# Altium footprint library WDpcb1u201801241.PcbLib: 14 footprints
Each footprint in its own frame and in the unit in brackets; x right, y up, seen from the top. Pads: shape width x height; smd on the part's side, far side on the other; paste and mask are expansions set on the pad; w line width, h text height; cw(c..) or ccw(c..) is an arc to the next point about the centre after c.
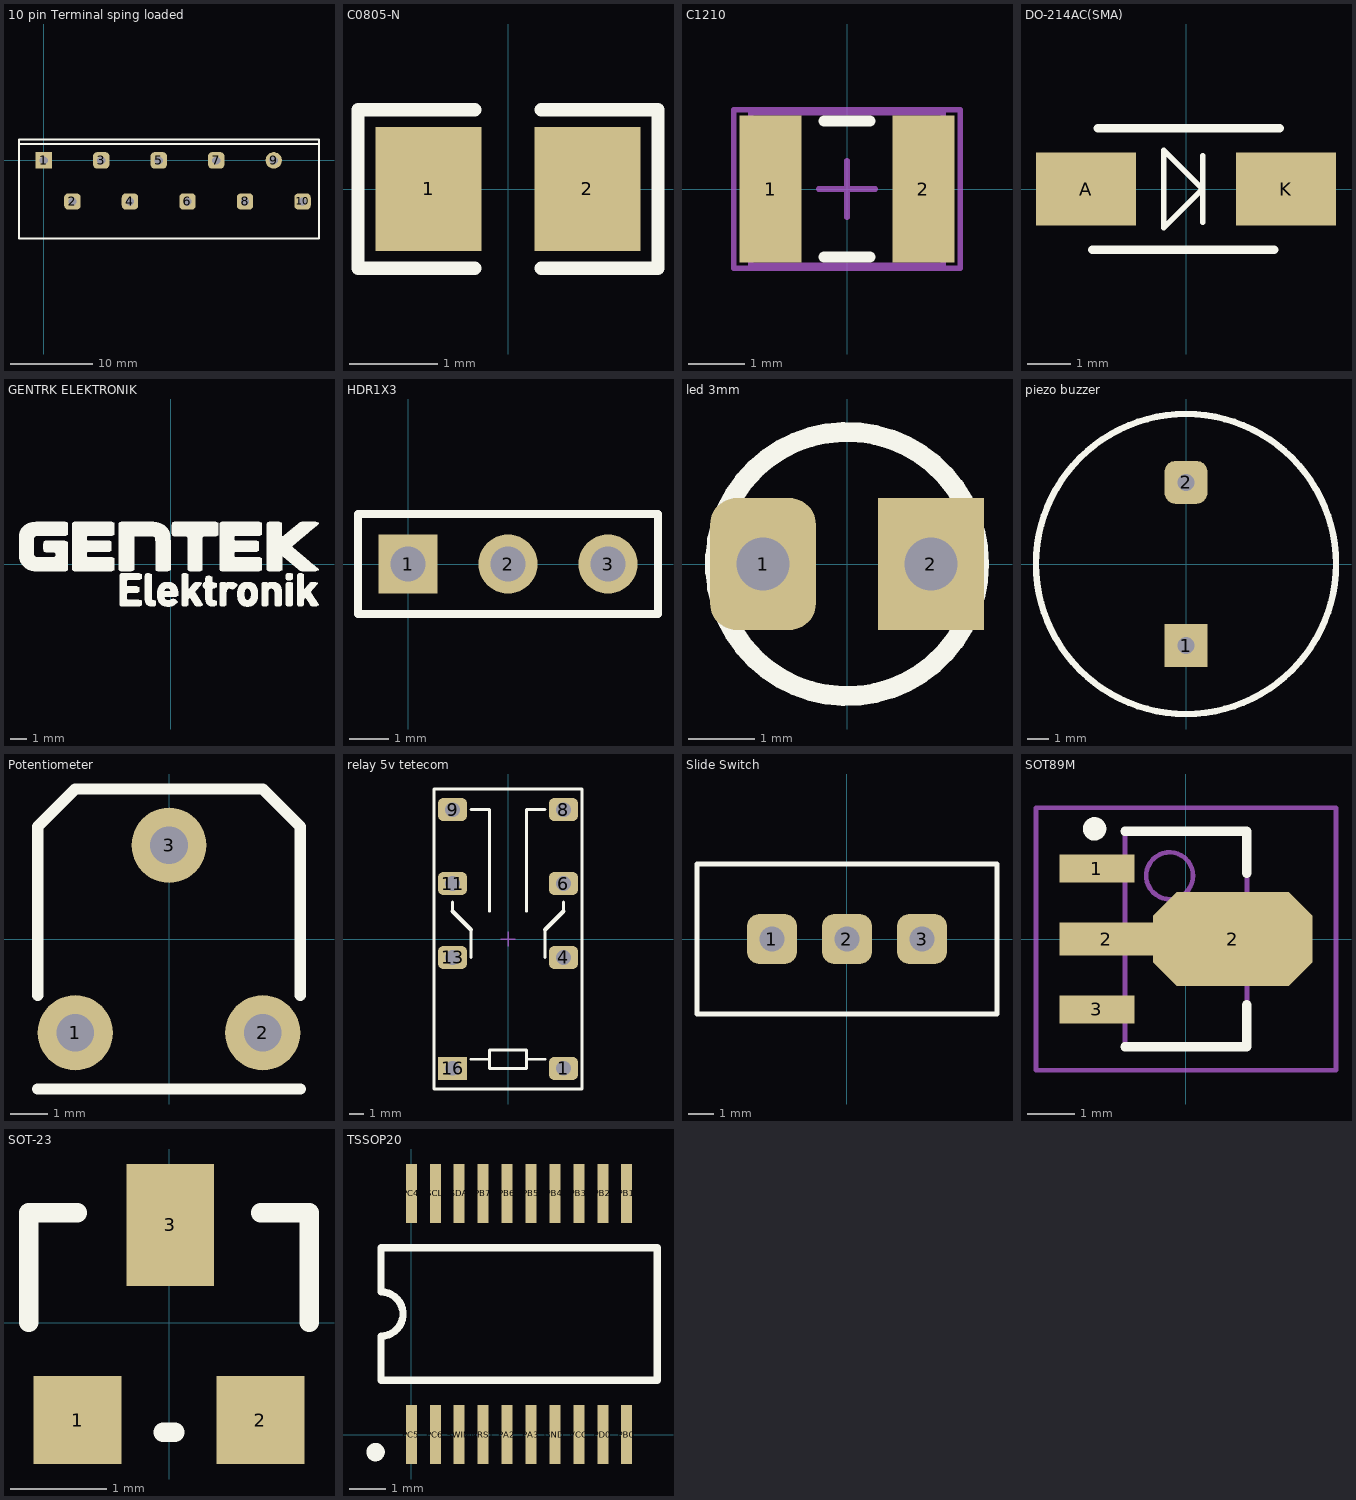
[diagram p0: the footprints below, top view; thin cyan lines are the x and y axes]

## 10 pin Terminal sping loaded [mm] "degson"
height 11.5
pads (10):
  rect 2x2 hole 1: 1(0,0)
  rrect50% 2x2 hole 1: 2(3.5,-5) 3(7,0) 4(10.5,-5) 5(14,0) 6(17.5,-5) 7(21,0) 8(24.5,-5) 10(31.5,-5)
  round 2 hole 1: 9(28,0)
Top Overlay:
  lines w0.2: -3,2 33.5,2 ; -3,-9.5 -3,2.54 33.02,2.54 33.5,2.54 33.5,-9.5 -3,-9.5

## C0805-N [mm] "Chip Resistor, Body 2.0x1.3mm, IPC Medium Density"
height 1.55
pads (2):
  rect 1.2x1.4 smd: 1(-0.9,0) 2(0.9,0)
Top Overlay:
  lines w0.152: -0.375,-0.9 -1.7,-0.9 -1.7,0.9 -0.375,0.9 ; 0.375,-0.9 1.7,-0.9 1.7,0.9 0.375,0.9
3D body: height 1.55, standoff 0, extent -1.075,-0.7 1.075,0.7

## C1210 [mm] "Chip Capacitor, Body 3.2x2.5mm, IPC High Density"
height 1.3
pads (2):
  rect 1.1x2.6 smd: 1(-1.35,0) 2(1.35,0)
Top Overlay:
  lines w0.2: -0.4,-1.2 0.4,-1.2 ; -0.4,1.2 0.4,1.2
Mechanical 13:
  lines w0.1: -1.7,-1.35 1.7,-1.35 1.7,1.35 -1.7,1.35 -1.7,-1.35
Mechanical 15:
  lines w0.1: -0.5,0 0.5,0 ; 0,-0.5 0,0.5 ; -2,-1.4 2,-1.4 2,1.4 -2,1.4 -2,-1.4
3D body: height 1.3, standoff 0, extent -1.7,-1.35 1.7,1.35

## DO-214AC(SMA) [mm]
pads (2):
  rect 2.3x1.68 smd: A(-2.3,0) K(2.3,0)
Top Overlay:
  lines w0.127: 0.381,-0.762 0.381,0.762 ; -0.508,-0.889 0.381,0 -0.508,0.889 -0.508,-0.889
  lines w0.2: -2.159,-1.397 2.032,-1.397 ; -2.032,1.397 2.159,1.397

## GENTRK ELEKTRONIK [mm]
height 3
Top Overlay:
  drawing of 4459 lines, arcs and shapes, not listed
3D body: height 3, standoff 0, extent -9.433,-2.587 9.201,2.645

## HDR1X3 [mm] "Connector; Header; 3 Position"
height 8
pads (3):
  rect 1.5x1.5 hole 0.9: 1(0,0)
  round 1.5 hole 0.9: 2(2.54,0) 3(5.08,0)
Top Overlay:
  lines w0.2: -1.27,-1.27 6.35,-1.27 6.35,1.27 -1.27,1.27 -1.27,-1.27

## led 3mm [mm]
height 5
pads (2):
  rrect50% 1.6x2 hole 0.8: 1(-1.27,0)
  rect 1.6x2 hole 0.8: 2(1.27,0)
Top Overlay:
  circle w0.3: c0,0 r2

## piezo buzzer [mm]
height 6.5
pads (2):
  rect 2x2 hole 0.8: 1(0,-3.81)
  rrect50% 2x2 hole 0.8: 2(0,3.81)
Top Overlay:
  circle w0.3: c0,0 r7

## Potentiometer [mm]
height 5
pads (3):
  round 2 hole 1: 1(-2.5,-2.5) 2(2.5,-2.5) 3(0,2.5)
Top Overlay:
  lines w0.3: -3.5,-4 3.5,-4 ; -3.5,-1.5 -3.5,2 -3.5,3 -2.5,4 2.5,4 3.5,3 3.5,2 3.5,-1.5

## relay 5v tetecom [mm]
height 12
pads (8):
  rrect50% 2x1.6 hole 1: 1(3.81,-8.89) 4(3.81,-1.27) 6(3.81,3.81) 8(3.81,8.89) 9(-3.81,8.89) 11(-3.81,3.81) 13(-3.81,-1.27)
  rect 2x1.6 hole 1: 16(-3.81,-8.89)
Top Overlay:
  lines w0.2: -3.81,1.905 -3.81,2.54 ; -2.54,-8.255 -1.27,-8.255 ; -2.54,-1.27 -2.54,0.635 ; -2.54,8.89 -1.27,8.89 -1.27,1.905 ; 1.27,-8.255 2.54,-8.255 ; 1.27,1.905 1.27,8.89 2.54,8.89 ; 2.54,-1.27 2.54,0.635 ; 3.81,1.905 3.81,2.54 ; -5.08,-10.3 -5.08,10.3 5.08,10.3 5.08,-10.3 -5.08,-10.3 ; -1.27,-8.89 -1.27,-7.62 1.27,-7.62 1.27,-8.89 -1.27,-8.89
  lines w0.3: -3.81,1.905 -2.54,0.635 ; 2.54,0.635 3.81,1.905
Mechanical 15:
  lines w0.1: -0.5,0 0.5,0 ; 0,-0.5 0,0.5

## Slide Switch [mm]
height 5
pads (3):
  rrect50% 2x2 hole 1: 1(-3,0) 2(0,0) 3(3,0)
Top Overlay:
  lines w0.2: -6,-3 -6,3 6,3 6,-3 -6,-3

## SOT89M [mm] "SOT89, 3-Leads, Body 4.5x2.4 mm, Pitch 1.5mm, Lead Span 4.1mm, IPC Low Density"
height 1.6
pads (4):
  rect 1.6x0.6 smd: 1(-1.9,1.5) 3(-1.9,-1.5)
  rect 2x0.7 smd: 2(-1.7,0)
  oct 3.4x2 smd: 2(1,0)
Top Overlay:
  circle w0.25: c-1.95,2.35 r0.125
  lines w0.2: -1.3,-2.3 1.3,-2.3 1.3,-1.4 ; -1.3,2.3 1.3,2.3 1.3,1.4
Mechanical 13:
  circle w0.1: c-0.35,1.35 r0.5
  lines w0.1: -1.3,-2.3 1.3,-2.3 1.3,2.3 -1.3,2.3 -1.3,-2.3
Mechanical 15:
  lines w0.1: -0.5,0 0.5,0 ; 0,-0.5 0,0.5 ; -3.2,-2.8 3.2,-2.8 3.2,2.8 -3.2,2.8 -3.2,-2.8
3D body: height 1.6, standoff 0, extent -1.3,-2.3 1.3,2.3

## SOT-23 [mil]
height 43.31
pads (3):
  rect 36x36 smd: 1(-37.5,-40) 2(37.5,-40)
  rect 36x50 smd: 3(0.5,40)
Top Overlay:
  lines w7.87: -57.5,0 -57.5,45 -37.5,45 ; -2.5,-45 2.5,-45 ; 37.5,45 57.5,45 57.5,0
3D body: height 43.31, standoff 0, extent -60,-47.5 60,47.5

## TSSOP20 [mm] "SO20 - 20 Leads; Body Width 7.5 mm; Pitch 1.27 mm"
height 1.27
pads (20):
  rect 0.3x1.6 smd: GND(3.9,0) NRST(1.95,0) PA2(2.6,0) PA3(3.25,0) PB0(5.85,0) PB1(5.85,6.55) PB2(5.2,6.55) PB3(4.55,6.55) PB4(3.9,6.55) PB5(3.25,6.55) PB6(2.6,6.55) PB7(1.95,6.55) PC4(0,6.55) PC5(0,0) PC6(0.65,0) PD0(5.2,0) SCL(0.65,6.55) SDA(1.3,6.55) SWIM(1.3,0) VCC(4.55,0)
Top Overlay:
  circle w0.25: c-0.973,-0.477 r0.125
  lines w0.2: -0.825,1.475 -0.825,2.675 ccw(c-0.825,3.275) -0.825,3.875 -0.825,5.075 6.675,5.075 6.675,1.475 -0.825,1.475
3D body: height 1.4, standoff 0.2, extent -0.077,1.79 0.323,2.19
3D body: height 0.2, standoff 0, extent 5.745,5.5 5.945,6.5
3D body: height 0.2, standoff 0, extent 5.095,5.5 5.295,6.5
3D body: height 0.2, standoff 0, extent 4.445,5.5 4.645,6.5
3D body: height 0.2, standoff 0, extent 3.795,5.5 3.995,6.5
3D body: height 0.2, standoff 0, extent 3.145,5.5 3.345,6.5
3D body: height 0.2, standoff 0, extent 2.495,5.5 2.695,6.5
3D body: height 0.2, standoff 0, extent 1.845,5.5 2.045,6.5
3D body: height 0.2, standoff 0, extent 1.195,5.5 1.395,6.5
3D body: height 0.2, standoff 0, extent 0.545,5.5 0.745,6.5
3D body: height 0.2, standoff 0, extent -0.105,5.5 0.095,6.5
3D body: height 0.2, standoff 0, extent 5.755,0 5.955,1
3D body: height 0.2, standoff 0, extent 5.105,0 5.305,1
3D body: height 0.2, standoff 0, extent 4.455,0 4.655,1
3D body: height 0.2, standoff 0, extent 3.805,0 4.005,1
3D body: height 0.2, standoff 0, extent 3.155,0 3.355,1
3D body: height 0.2, standoff 0, extent 2.505,0 2.705,1
3D body: height 0.2, standoff 0, extent 1.855,0 2.055,1
3D body: height 0.2, standoff 0, extent 1.205,0 1.405,1
3D body: height 0.2, standoff 0, extent 0.555,0 0.755,1
3D body: height 0.2, standoff 0, extent -0.095,0 0.105,1
3D body: height 1.2, standoff 0, extent -0.385,1 6.2,5.5